# EAGLE library part CONN_5X2_0P05_IN_SMT (library leaf)
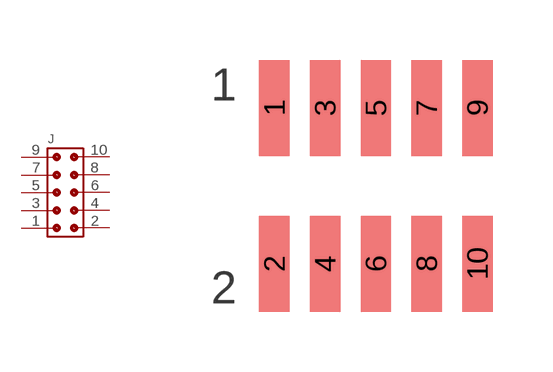
[diagram p9: symbol with the pads of CONN_5X2_0P050_IN_SMT; footprint CONN_5X2_0P050_IN_SMT]

Designator prefix J

## CONN_5X2_0P05_IN_SMT  [CONN_5X2_0P050_IN_SMT]
1  1
2  2
3  3
4  4
5  5
6  6
7  7
8  8
9  9
10  10

## Footprint CONN_5X2_0P050_IN_SMT (pad centres in mm)
smd 0.76 x 2.4: 1 -2.54,1.95; 2 -2.54,-1.95; 3 -1.27,1.95; 4 -1.27,-1.95; 5 0,1.95; 6 0,-1.95; 7 1.27,1.95; 8 1.27,-1.95; 9 2.54,1.95; 10 2.54,-1.95